# Altium footprint library ADL8111ACCZN.PcbLib: 3 footprints
Each footprint in its own frame and in the unit in brackets; x right, y up, seen from the top. Pads: shape width x height; smd on the part's side, far side on the other; paste and mask are expansions set on the pad; w line width, h text height; cw(c..) or ccw(c..) is an arc to the next point about the centre after c.
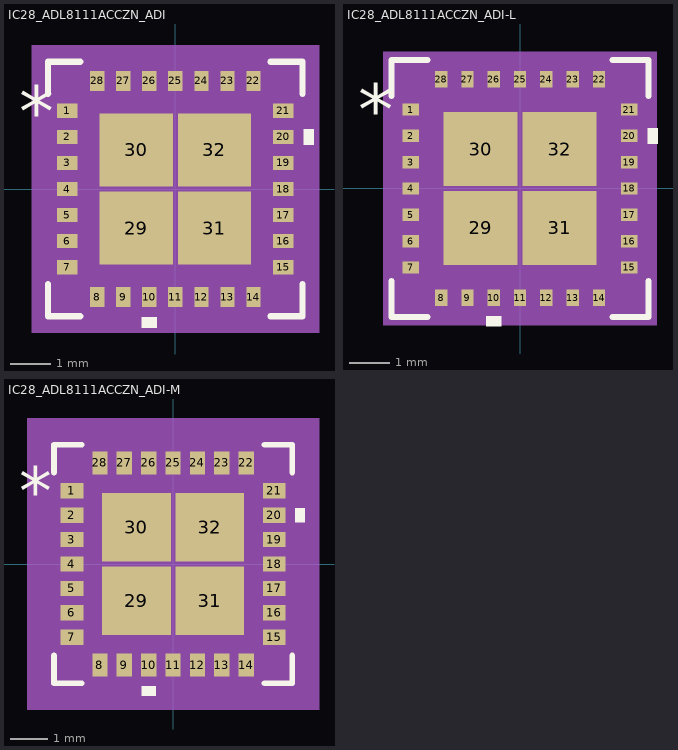
[diagram p0: the footprints below, top view; thin cyan lines are the x and y axes]

## IC28_ADL8111ACCZN_ADI [mil]
pads (32):
  rect 20x14 smd paste+0 mask+0: 1(-106.14,76.77) 2(-106.14,51.18) 3(-106.14,25.59) 4(-106.14,0) 5(-106.14,-25.59) 6(-106.14,-51.18) 7(-106.14,-76.77) 15(106.14,-76.77) 16(106.14,-51.18) 17(106.14,-25.59) 18(106.14,0) 19(106.14,25.59) 20(106.14,51.18) 21(106.14,76.77)
  rect 14x20 smd paste+0 mask+0: 8(-76.77,-106.14) 9(-51.18,-106.14) 10(-25.59,-106.14) 11(0,-106.14) 12(25.59,-106.14) 13(51.18,-106.14) 14(76.77,-106.14) 22(76.77,106.14) 23(51.18,106.14) 24(25.59,106.14) 25(0,106.14) 26(-25.59,106.14) 27(-51.18,106.14) 28(-76.77,106.14)
  rect 72x72 smd paste+0 mask+0: 29(-38.39,-38.39) 30(-38.39,38.39) 31(38.39,-38.39) 32(38.39,38.39)
Top Overlay:
  region: -18.09,-126.14 -33.09,-126.14 -33.09,-136.14 -18.09,-136.14
  region: 126.14,58.68 136.14,58.68 136.14,43.68 126.14,43.68
  lines w6: -125,-93.42 -125,-125 -93.42,-125 ; -125,93.42 -125,125 -93.42,125 ; 93.42,-125 125,-125 125,-93.42 ; 93.42,125 125,125 125,93.42
  text "*" at -153.64,51.77 h50
Mechanical 5:
  region: 141.14,-141.14 -141.14,-141.14 -141.14,141.14 141.14,141.14
Mechanical 13:
  lines w1: -120,70 -70,120 ; -120,-120 120,-120 120,120 -120,120 -120,-120 ; -120,-83.77 -120,-69.77 -116.14,-69.77 -116.14,-83.77 -120,-83.77 ; -120,-58.18 -120,-44.18 -116.14,-44.18 -116.14,-58.18 -120,-58.18 ; -120,-32.59 -120,-18.59 -116.14,-18.59 -116.14,-32.59 -120,-32.59 ; -120,-7 -120,7 -116.14,7 -116.14,-7 -120,-7 ; -120,18.59 -120,32.59 -116.14,32.59 -116.14,18.59 -120,18.59 ; -120,44.18 -120,58.18 -116.14,58.18 -116.14,44.18 -120,44.18 ; -120,69.77 -120,83.77 -116.14,83.77 -116.14,69.77 -120,69.77 ; -83.77,-120 -69.77,-120 -69.77,-116.14 -83.77,-116.14 -83.77,-120 ; -83.77,116.14 -69.77,116.14 -69.77,120 -83.77,120 -83.77,116.14 ; -58.18,-120 -44.18,-120 -44.18,-116.14 -58.18,-116.14 -58.18,-120 ; -58.18,116.14 -44.18,116.14 -44.18,120 -58.18,120 -58.18,116.14 ; -32.59,-120 -18.59,-120 -18.59,-116.14 -32.59,-116.14 -32.59,-120 ; -32.59,116.14 -18.59,116.14 -18.59,120 -32.59,120 -32.59,116.14 ; -7,-120 7,-120 7,-116.14 -7,-116.14 -7,-120 ; -7,116.14 7,116.14 7,120 -7,120 -7,116.14 ; 18.59,-120 32.59,-120 32.59,-116.14 18.59,-116.14 18.59,-120 ; 18.59,116.14 32.59,116.14 32.59,120 18.59,120 18.59,116.14 ; 44.18,-120 58.18,-120 58.18,-116.14 44.18,-116.14 44.18,-120 ; 44.18,116.14 58.18,116.14 58.18,120 44.18,120 44.18,116.14 ; 69.77,-120 83.77,-120 83.77,-116.14 69.77,-116.14 69.77,-120 ; 69.77,116.14 83.77,116.14 83.77,120 69.77,120 69.77,116.14 ; 116.14,-83.77 120,-83.77 120,-69.77 116.14,-69.77 116.14,-83.77 ; 116.14,-58.18 120,-58.18 120,-44.18 116.14,-44.18 116.14,-58.18 ; 116.14,-32.59 120,-32.59 120,-18.59 116.14,-18.59 116.14,-32.59 ; 116.14,-7 120,-7 120,7 116.14,7 116.14,-7 ; 116.14,18.59 120,18.59 120,32.59 116.14,32.59 116.14,18.59 ; 116.14,44.18 120,44.18 120,58.18 116.14,58.18 116.14,44.18 ; 116.14,69.77 120,69.77 120,83.77 116.14,83.77 116.14,69.77
  text "*" at -83.64,51.77 h50
Mechanical 15:
  region: -93.77,-130 -130,-130 -130,-93.77 -130,93.77 -130,130 -93.77,130 93.77,130 130,130 130,93.77 130,-93.77 130,-130 93.77,-130
  lines w6: -130,-93.77 -130,-130 -93.77,-130 ; -130,-93.77 -130,-93.77 ; -130,-93.77 -130,93.77 ; -130,93.77 -130,93.77 ; -130,93.77 -130,130 -93.77,130 ; -93.77,-130 93.77,-130 ; -93.77,-130 -93.77,-130 ; -93.77,130 -93.77,130 ; -93.77,130 93.77,130 ; 93.77,-130 130,-130 130,-93.77 ; 93.77,-130 93.77,-130 ; 93.77,130 93.77,130 ; 93.77,130 130,130 130,93.77 ; 130,-93.77 130,93.77 ; 130,-93.77 130,-93.77 ; 130,93.77 130,93.77
3D body "IC28_ADL8111ACCZN_ADI.step": height 56.1, standoff 0, extent -120,-120 120,120

## IC28_ADL8111ACCZN_ADI-L [mil]
pads (32):
  rect 16x12 smd paste+0 mask+0: 1(-106.14,76.77) 2(-106.14,51.18) 3(-106.14,25.59) 4(-106.14,0) 5(-106.14,-25.59) 6(-106.14,-51.18) 7(-106.14,-76.77) 15(106.14,-76.77) 16(106.14,-51.18) 17(106.14,-25.59) 18(106.14,0) 19(106.14,25.59) 20(106.14,51.18) 21(106.14,76.77)
  rect 12x16 smd paste+0 mask+0: 8(-76.77,-106.14) 9(-51.18,-106.14) 10(-25.59,-106.14) 11(0,-106.14) 12(25.59,-106.14) 13(51.18,-106.14) 14(76.77,-106.14) 22(76.77,106.14) 23(51.18,106.14) 24(25.59,106.14) 25(0,106.14) 26(-25.59,106.14) 27(-51.18,106.14) 28(-76.77,106.14)
  rect 72x72 smd paste+0 mask+0: 29(-38.39,-38.39) 30(-38.39,38.39) 31(38.39,-38.39) 32(38.39,38.39)
Top Overlay:
  region: -18.09,-124.14 -33.09,-124.14 -33.09,-134.14 -18.09,-134.14
  region: 124.14,58.68 134.14,58.68 134.14,43.68 124.14,43.68
  lines w6: -125,-90.1 -125,-125 -90.1,-125 ; -125,90.1 -125,125 -90.1,125 ; 90.1,-125 125,-125 125,-90.1 ; 90.1,125 125,125 125,90.1
  text "*" at -157.64,51.77 h50
Mechanical 5:
  region: 133.14,-133.14 -133.14,-133.14 -133.14,133.14 133.14,133.14
Mechanical 13:
  lines w1: -120,70 -70,120 ; -120,-120 120,-120 120,120 -120,120 -120,-120 ; -120,-83.77 -120,-69.77 -116.14,-69.77 -116.14,-83.77 -120,-83.77 ; -120,-58.18 -120,-44.18 -116.14,-44.18 -116.14,-58.18 -120,-58.18 ; -120,-32.59 -120,-18.59 -116.14,-18.59 -116.14,-32.59 -120,-32.59 ; -120,-7 -120,7 -116.14,7 -116.14,-7 -120,-7 ; -120,18.59 -120,32.59 -116.14,32.59 -116.14,18.59 -120,18.59 ; -120,44.18 -120,58.18 -116.14,58.18 -116.14,44.18 -120,44.18 ; -120,69.77 -120,83.77 -116.14,83.77 -116.14,69.77 -120,69.77 ; -83.77,-120 -69.77,-120 -69.77,-116.14 -83.77,-116.14 -83.77,-120 ; -83.77,116.14 -69.77,116.14 -69.77,120 -83.77,120 -83.77,116.14 ; -58.18,-120 -44.18,-120 -44.18,-116.14 -58.18,-116.14 -58.18,-120 ; -58.18,116.14 -44.18,116.14 -44.18,120 -58.18,120 -58.18,116.14 ; -32.59,-120 -18.59,-120 -18.59,-116.14 -32.59,-116.14 -32.59,-120 ; -32.59,116.14 -18.59,116.14 -18.59,120 -32.59,120 -32.59,116.14 ; -7,-120 7,-120 7,-116.14 -7,-116.14 -7,-120 ; -7,116.14 7,116.14 7,120 -7,120 -7,116.14 ; 18.59,-120 32.59,-120 32.59,-116.14 18.59,-116.14 18.59,-120 ; 18.59,116.14 32.59,116.14 32.59,120 18.59,120 18.59,116.14 ; 44.18,-120 58.18,-120 58.18,-116.14 44.18,-116.14 44.18,-120 ; 44.18,116.14 58.18,116.14 58.18,120 44.18,120 44.18,116.14 ; 69.77,-120 83.77,-120 83.77,-116.14 69.77,-116.14 69.77,-120 ; 69.77,116.14 83.77,116.14 83.77,120 69.77,120 69.77,116.14 ; 116.14,-83.77 120,-83.77 120,-69.77 116.14,-69.77 116.14,-83.77 ; 116.14,-58.18 120,-58.18 120,-44.18 116.14,-44.18 116.14,-58.18 ; 116.14,-32.59 120,-32.59 120,-18.59 116.14,-18.59 116.14,-32.59 ; 116.14,-7 120,-7 120,7 116.14,7 116.14,-7 ; 116.14,18.59 120,18.59 120,32.59 116.14,32.59 116.14,18.59 ; 116.14,44.18 120,44.18 120,58.18 116.14,58.18 116.14,44.18 ; 116.14,69.77 120,69.77 120,83.77 116.14,83.77 116.14,69.77
  text "*" at -79.64,51.77 h50
Mechanical 15:
  region: -86.77,-124 -124,-124 -124,-86.77 -124,86.77 -124,124 -86.77,124 86.77,124 124,124 124,86.77 124,-86.77 124,-124 86.77,-124
  lines w6: -124,-86.77 -124,-124 -86.77,-124 ; -124,-86.77 -124,-86.77 ; -124,-86.77 -124,86.77 ; -124,86.77 -124,86.77 ; -124,86.77 -124,124 -86.77,124 ; -86.77,-124 86.77,-124 ; -86.77,-124 -86.77,-124 ; -86.77,124 -86.77,124 ; -86.77,124 86.77,124 ; 86.77,-124 124,-124 124,-86.77 ; 86.77,-124 86.77,-124 ; 86.77,124 86.77,124 ; 86.77,124 124,124 124,86.77 ; 124,-86.77 124,86.77 ; 124,-86.77 124,-86.77 ; 124,86.77 124,86.77
3D body "IC28_ADL8111ACCZN_ADI.step": height 56.1, standoff 0, extent -120,-120 120,120

## IC28_ADL8111ACCZN_ADI-M [mil]
pads (32):
  rect 24x16 smd paste+0 mask+0: 1(-106.14,76.77) 2(-106.14,51.18) 3(-106.14,25.59) 4(-106.14,0) 5(-106.14,-25.59) 6(-106.14,-51.18) 7(-106.14,-76.77) 15(106.14,-76.77) 16(106.14,-51.18) 17(106.14,-25.59) 18(106.14,0) 19(106.14,25.59) 20(106.14,51.18) 21(106.14,76.77)
  rect 16x24 smd paste+0 mask+0: 8(-76.77,-106.14) 9(-51.18,-106.14) 10(-25.59,-106.14) 11(0,-106.14) 12(25.59,-106.14) 13(51.18,-106.14) 14(76.77,-106.14) 22(76.77,106.14) 23(51.18,106.14) 24(25.59,106.14) 25(0,106.14) 26(-25.59,106.14) 27(-51.18,106.14) 28(-76.77,106.14)
  rect 72x72 smd paste+0 mask+0: 29(-38.39,-38.39) 30(-38.39,38.39) 31(38.39,-38.39) 32(38.39,38.39)
Top Overlay:
  region: -18.09,-128.14 -33.09,-128.14 -33.09,-138.14 -18.09,-138.14
  region: 128.14,58.68 138.14,58.68 138.14,43.68 128.14,43.68
  lines w6: -125,-95.93 -125,-125 -95.93,-125 ; -125,95.93 -125,125 -95.93,125 ; 95.93,-125 125,-125 125,-95.93 ; 95.93,125 125,125 125,95.93
  text "*" at -161.64,51.77 h50
Mechanical 5:
  region: 153.14,-153.14 -153.14,-153.14 -153.14,153.14 153.14,153.14
Mechanical 13:
  lines w1: -120,70 -70,120 ; -120,-120 120,-120 120,120 -120,120 -120,-120 ; -120,-83.77 -120,-69.77 -116.14,-69.77 -116.14,-83.77 -120,-83.77 ; -120,-58.18 -120,-44.18 -116.14,-44.18 -116.14,-58.18 -120,-58.18 ; -120,-32.59 -120,-18.59 -116.14,-18.59 -116.14,-32.59 -120,-32.59 ; -120,-7 -120,7 -116.14,7 -116.14,-7 -120,-7 ; -120,18.59 -120,32.59 -116.14,32.59 -116.14,18.59 -120,18.59 ; -120,44.18 -120,58.18 -116.14,58.18 -116.14,44.18 -120,44.18 ; -120,69.77 -120,83.77 -116.14,83.77 -116.14,69.77 -120,69.77 ; -83.77,-120 -69.77,-120 -69.77,-116.14 -83.77,-116.14 -83.77,-120 ; -83.77,116.14 -69.77,116.14 -69.77,120 -83.77,120 -83.77,116.14 ; -58.18,-120 -44.18,-120 -44.18,-116.14 -58.18,-116.14 -58.18,-120 ; -58.18,116.14 -44.18,116.14 -44.18,120 -58.18,120 -58.18,116.14 ; -32.59,-120 -18.59,-120 -18.59,-116.14 -32.59,-116.14 -32.59,-120 ; -32.59,116.14 -18.59,116.14 -18.59,120 -32.59,120 -32.59,116.14 ; -7,-120 7,-120 7,-116.14 -7,-116.14 -7,-120 ; -7,116.14 7,116.14 7,120 -7,120 -7,116.14 ; 18.59,-120 32.59,-120 32.59,-116.14 18.59,-116.14 18.59,-120 ; 18.59,116.14 32.59,116.14 32.59,120 18.59,120 18.59,116.14 ; 44.18,-120 58.18,-120 58.18,-116.14 44.18,-116.14 44.18,-120 ; 44.18,116.14 58.18,116.14 58.18,120 44.18,120 44.18,116.14 ; 69.77,-120 83.77,-120 83.77,-116.14 69.77,-116.14 69.77,-120 ; 69.77,116.14 83.77,116.14 83.77,120 69.77,120 69.77,116.14 ; 116.14,-83.77 120,-83.77 120,-69.77 116.14,-69.77 116.14,-83.77 ; 116.14,-58.18 120,-58.18 120,-44.18 116.14,-44.18 116.14,-58.18 ; 116.14,-32.59 120,-32.59 120,-18.59 116.14,-18.59 116.14,-32.59 ; 116.14,-7 120,-7 120,7 116.14,7 116.14,-7 ; 116.14,18.59 120,18.59 120,32.59 116.14,32.59 116.14,18.59 ; 116.14,44.18 120,44.18 120,58.18 116.14,58.18 116.14,44.18 ; 116.14,69.77 120,69.77 120,83.77 116.14,83.77 116.14,69.77
  text "*" at -75.64,51.77 h50
Mechanical 15:
  region: -104.77,-140 -140,-140 -140,-104.77 -140,104.77 -140,140 -104.77,140 104.77,140 140,140 140,104.77 140,-104.77 140,-140 104.77,-140
  lines w6: -140,-104.77 -140,-140 -104.77,-140 ; -140,-104.77 -140,-104.77 ; -140,-104.77 -140,104.77 ; -140,104.77 -140,104.77 ; -140,104.77 -140,140 -104.77,140 ; -104.77,-140 104.77,-140 ; -104.77,-140 -104.77,-140 ; -104.77,140 -104.77,140 ; -104.77,140 104.77,140 ; 104.77,-140 140,-140 140,-104.77 ; 104.77,-140 104.77,-140 ; 104.77,140 104.77,140 ; 104.77,140 140,140 140,104.77 ; 140,-104.77 140,104.77 ; 140,-104.77 140,-104.77 ; 140,104.77 140,104.77
3D body "IC28_ADL8111ACCZN_ADI.step": height 56.1, standoff 0, extent -120,-120 120,120